# EAGLE library part DF13-6 (library Custom_Library)
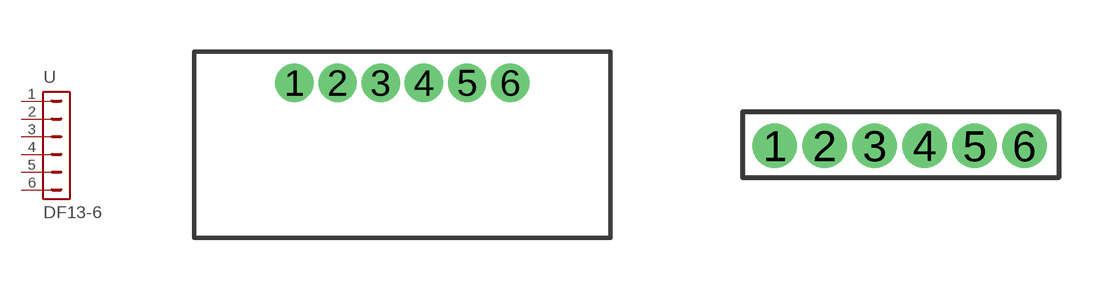
[diagram p13: symbol with the pads of DF13-6; footprints DF13-6, DF16-6_THIN]

Designator prefix -

## DF13-6  [DF13-6]
1  1  pas
2  2  pas
3  3  pas
4  4  pas
5  5  pas
6  6  pas

## DF13-6THIN  [DF16-6_THIN]
Pads as for DF13-6

## Footprint DF13-6 (pad centres in mm)
drill 0.6 pad 1.016: 1 -3.1,1.85; 2 -1.85,1.85; 3 -0.6,1.85; 4 0.65,1.85; 5 1.9,1.85; 6 3.15,1.85

## Footprint DF16-6_THIN (pad centres in mm)
drill 0.6 pad 1.016: 1 -3.1,0.58; 2 -1.85,0.58; 3 -0.6,0.58; 4 0.65,0.58; 5 1.9,0.58; 6 3.15,0.58